# Altium footprint library CWX.PcbLib: 3 footprints
Each footprint in its own frame and in the unit in brackets; x right, y up, seen from the top. Pads: shape width x height; smd on the part's side, far side on the other; paste and mask are expansions set on the pad; w line width, h text height; cw(c..) or ccw(c..) is an arc to the next point about the centre after c.
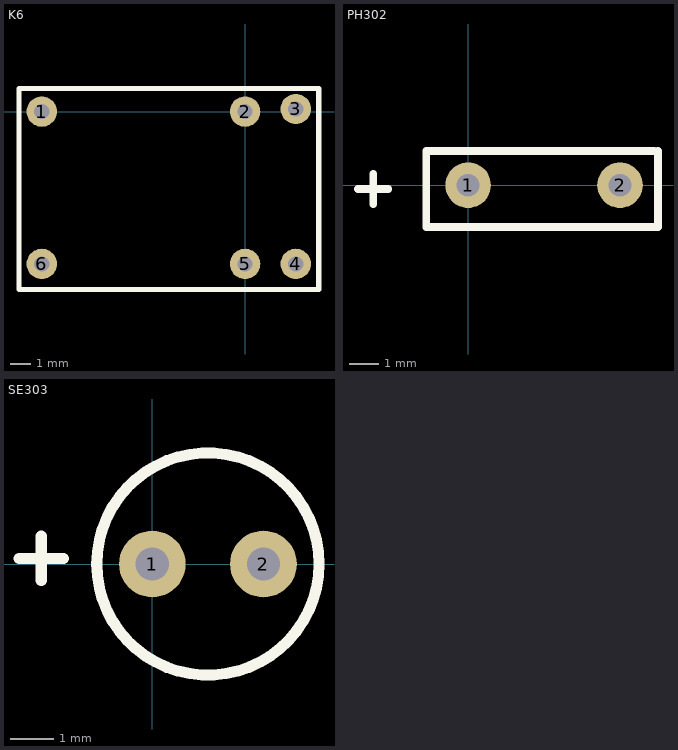
[diagram p0: the footprints below, top view; thin cyan lines are the x and y axes]

## K6 [mil]
pads (6):
  round 60 hole 30: 1(-400,0) 2(0,0) 3(100,5) 4(100,-300) 5(0,-300) 6(-400,-300)
Top Overlay:
  lines w10: -445,43.7 -445,-350 145.55,-350 ; -445,45 145.55,45 ; 145,-350 145,43.7

## PH302 [mil]
pads (2):
  round 60 hole 30: 1(0,0) 2(200,0)
Top Overlay:
  lines w10: -145,-5 -105,-5 ; -125,-25 -125,15 ; 245,45 -55,45 -55,-55 250,-55 250,45

## SE303 [mil]
pads (2):
  round 60 hole 30: 1(0,0) 2(100,0)
Top Overlay:
  circle w10: c50,0 r100
  lines w10: -120,5 -80,5 ; -100,-15 -100,-5 -100,25